# EAGLE library part OLED_0.96_SPI_SERIAL (library common components)
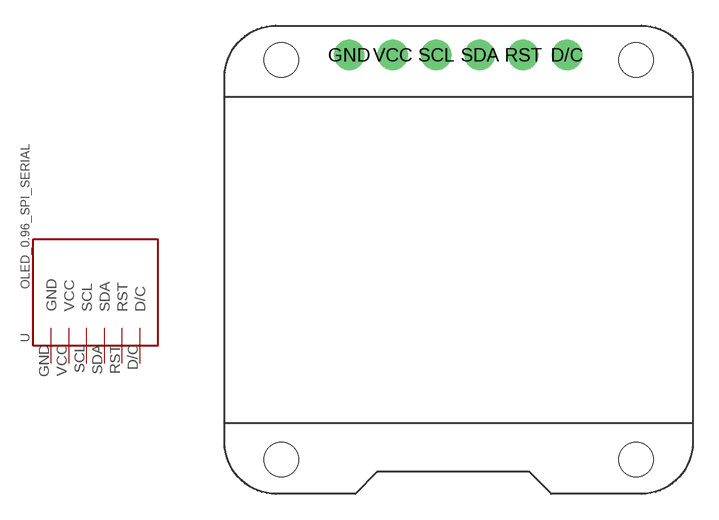
[diagram p6: symbol with the pads of OLED_9.96_SPI_SERIAL; footprint OLED_9.96_SPI_SERIAL]

Designator prefix -

## OLED_0.96_SPI_SERIAL  [OLED_9.96_SPI_SERIAL]
D/C  D/C
GND  GND
RST  RST
SCL  SCL
SDA  SDA
VCC  VCC

## Footprint OLED_9.96_SPI_SERIAL (pad centres in mm)
drill 1 pad 1.778: D/C 5.99,11.63; GND -6.71,11.63; RST 3.45,11.63; SCL -1.63,11.63; SDA 0.91,11.63; VCC -4.17,11.63
hole 2 at -10.67,-11.97
hole 2 at 10.03,-11.97
hole 2 at 10.03,11.33
hole 2 at -10.67,11.33